# Altium integrated library SPM6530T-2R2M-HZ.IntLib: 1 symbol
Pins are listed as number, name and electrical type; pins without a type are passive.

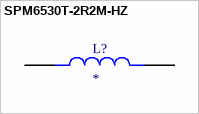
[diagram p0: symbol SPM6530T-2R2M-HZ]

## SPM6530T-2R2M-HZ
designator L?
MP: SPM6530T-2R2M-HZ; MF: {'manufacturer': u'TDK Corporation'}; Package: None; Value: *; Availability: Unavailable; Price: None
footprint IND_SPM6530T-2R2M-HZ
pins: 1, 2